# Altium footprint library call-2014-062.PcbLib: 24 footprints (part 1 of 2)
Each footprint in its own frame and in the unit in brackets; x right, y up, seen from the top. Pads: shape width x height; smd on the part's side, far side on the other; paste and mask are expansions set on the pad; w line width, h text height; cw(c..) or ccw(c..) is an arc to the next point about the centre after c.
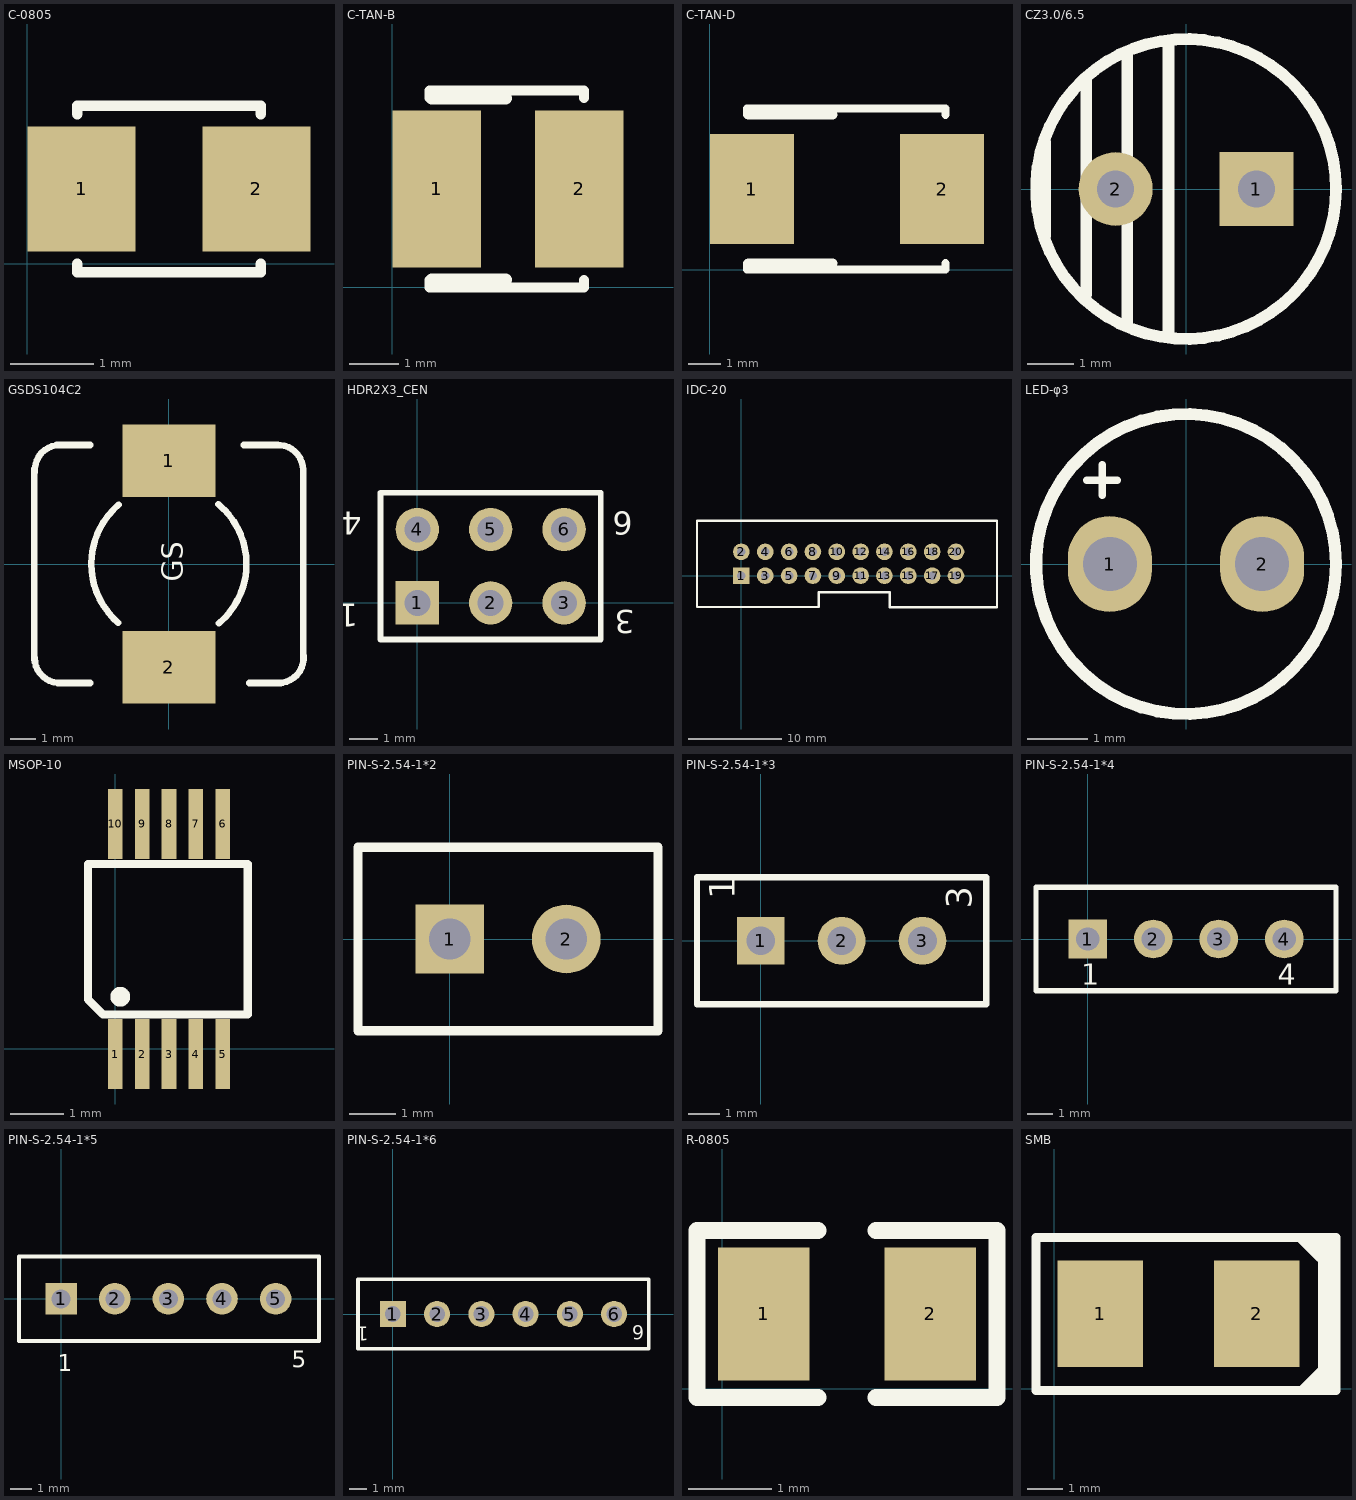
[diagram p0: the footprints below, top view; thin cyan lines are the x and y axes]

## C-0805 [mm]
height 1.5
pads (2):
  rect 1.3x1.5 smd: 1(0.65,0.9) 2(2.75,0.9)
Top Overlay:
  lines w0.127: 0.6,0 0.6,-0.1 2.8,-0.1 2.8,0 ; 0.6,1.8 0.6,1.9 2.8,1.9 2.8,1.8

## C-TAN-B [mm]
height 3
pads (2):
  rect 1.8x3.2 smd: 1(0.9,2) 2(3.8,2)
Top Overlay:
  lines w0.203: 0.75,0 0.75,0.15 ; 0.75,3.85 0.75,4 ; 0.8,0 3.9,0 3.9,0.15 ; 0.8,4 3.9,4 3.9,3.85
  lines w0.254: 0.8,0.15 2.3,0.15 ; 0.8,3.85 2.3,3.85

## C-TAN-D [mm]
height 3.7
pads (2):
  rect 2.6x3.4 smd: 1(1.3,2.5) 2(7.2,2.5)
Top Overlay:
  lines w0.254: 1.15,0 1.15,0.2 ; 1.15,4.8 1.15,5 ; 1.2,0 7.3,0 7.3,0.2 ; 1.2,5 7.3,5 7.3,4.8
  lines w0.305: 1.2,0.2 3.8,0.2 ; 1.2,4.8 3.8,4.8

## CZ3.0/6.5 [mm]
height 12.7
pads (2):
  rect 1.6x1.6 hole 0.8: 1(1.524,0)
  round 1.6 hole 0.8: 2(-1.524,0)
Top Overlay:
  circle w0.254: c0,0 r3.25
  lines w0.254: -3.048,-1.016 -3.048,1.016 ; -2.159,-2.286 -2.159,2.413 ; -1.27,-2.921 -1.27,2.921 ; -0.381,-3.175 -0.381,3.175

## GSDS104C2 [mm]
height 4
pads (2):
  rect 3.6x2.8 smd: 1(0,4) 2(0,-4)
Top Overlay:
  lines w0.254: -5.2,-3.708 -5.2,3.683 ; -5.189,-3.632 ccw(c-4.221,-3.632) -4.14,-4.597 ; -5.181,3.549 cw(c-4.216,3.629) -4.216,4.597 ; -4.343,4.6 -3.047,4.6 ; -4.293,-4.6 -3.047,-4.6 ; -1.951,-2.279 cw(c0,0) -1.933,2.294 ; 1.913,2.311 cw(c0,0) 1.932,-2.295 ; 2.896,4.6 4.216,4.6 ; 3.101,-4.6 4.318,-4.6 ; 4.14,4.597 cw(c4.221,3.632) 5.189,3.632 ; 4.242,-4.597 ccw(c4.242,-3.629) 5.207,-3.549 ; 5.2,-3.708 5.2,0 ; 5.2,-0.102 5.2,3.683
  text "GS" at 0.54,-0.68 h0.8

## HDR2X3_CEN [mm] "Connector; Header; 3x2 Position"
height 1
pads (6):
  rect 1.5x1.5 hole 0.9: 1(0,0)
  round 1.5 hole 0.9: 2(2.54,0) 3(5.08,0) 4(0,2.54) 5(2.54,2.54) 6(5.08,2.54)
Top Overlay:
  lines w0.2: -1.27,-1.27 6.35,-1.27 6.35,3.81 -1.27,3.81 -1.27,-1.27
  text "6" at 7.462,3.158 h0.8
  text "3" at 7.528,-0.253 h0.8
  text "1" at -2.051,-0.023 h0.8
  text "4" at -1.919,3.158 h0.8

## IDC-20 [mil]
height 270.08
pads (20):
  rect 70x70 hole 35: 1(1,0)
  round 70 hole 35: 2(1,100) 3(101,0) 4(101,100) 5(201,0) 6(201,100) 7(301,0) 8(301,100) 9(401,0) 10(401,100) 11(501,0) 12(501,100) 13(601,0) 14(601,100) 15(701,0) 16(701,100) 17(801,0) 18(801,100) 19(901,0) 20(901,100)
Top Overlay:
  lines w10: -185.22,-131.58 -185.22,231.02 1073.05,231.02 1073.05,-133.16 623.91,-133.16 623.91,-68.79 325.91,-68.79 325.91,-131.58 -185.22,-131.58

## LED-φ3 [mm]
height 11
pads (2):
  oval 1.4x1.6 hole 0.9: 1(-1.27,0) 2(1.27,0)
Top Overlay:
  circle w0.203: c0,0 r2.5
  lines w0.127: -1.651,1.397 -1.143,1.397 ; -1.397,1.143 -1.397,1.651

## MSOP-10 [mm]
height 1
pads (10):
  rect 0.27x1.3 smd mask+0.05: 1(0,-0.1) 2(0.5,-0.1) 3(1,-0.1) 4(1.5,-0.1) 5(2,-0.1) 6(2,4.175) 7(1.5,4.175) 8(1,4.175) 9(0.5,4.175) 10(0,4.175)
Top Overlay:
  circle w0.254: c0.096,0.965 r0.057
  lines w0.15: -0.508,0.914 -0.229,0.635 2.464,0.635 2.464,3.429 -0.508,3.429 -0.508,0.914

## PIN-S-2.54-1*2 [mm]
height 9
pads (2):
  rect 1.5x1.5 hole 0.9: 1(0,0)
  round 1.5 hole 0.9: 2(2.54,0)
Top Overlay:
  lines w0.203: -2,-2 4.54,-2 4.54,2 -2,2 -2,-2

## PIN-S-2.54-1*3 [mm]
height 9
pads (3):
  rect 1.5x1.5 hole 0.9: 1(0,0)
  round 1.5 hole 0.9: 2(2.54,0) 3(5.08,0)
Top Overlay:
  lines w0.203: -2,-2 7.08,-2 7.08,2 -2,2 -2,-2
  text "1" at -0.82,1.31 h0.8
  text "3" at 6.62,1 h0.8

## PIN-S-2.54-1*4 [mm]
height 9
pads (4):
  rect 1.5x1.5 hole 0.9: 1(0,0)
  round 1.5 hole 0.9: 2(2.54,0) 3(5.08,0) 4(7.62,0)
Top Overlay:
  lines w0.203: -2,-2 9.62,-2 9.62,2 -2,2 -2,-2
  text "1" at -0.254,-1.778 h0.8
  text "4" at 7.366,-1.778 h0.8

## PIN-S-2.54-1*5 [mm]
height 5
pads (5):
  rect 1.5x1.5 hole 0.9: 1(0,0)
  round 1.5 hole 0.9: 2(2.54,0) 3(5.08,0) 4(7.62,0) 5(10.16,0)
Top Overlay:
  lines w0.203: -2,-2 12.217,-2 12.217,2 -2,2 -2,-2
  text "1" at -0.17,-3.44 h0.8
  text "5" at 10.93,-3.26 h0.8

## PIN-S-2.54-1*6 [mm]
height 9
pads (6):
  rect 1.5x1.5 hole 0.9: 1(0,0)
  round 1.5 hole 0.9: 2(2.54,0) 3(5.08,0) 4(7.62,0) 5(10.16,0) 6(12.7,0)
Top Overlay:
  lines w0.203: -2,-2 -2,2 14.7,2 14.7,-2 -2,-2
  text "6" at 14.42,-0.66 h0.8
  text "1" at -1.38,-0.72 h0.8

## R-0805 [mm]
height 0.7
pads (2):
  rect 1.1x1.6 smd: 1(0.5,0.9) 2(2.5,0.9)
Top Overlay:
  lines w0.203: 1.15,-0.1 -0.3,-0.1 -0.3,1.9 1.15,1.9 ; 1.85,-0.1 3.3,-0.1 3.3,1.9 1.85,1.9

## SMB [mm]
height 2.8
pads (2):
  rect 2.4x3 smd: 1(1.3,2.1) 2(5.7,2.1)
Top Overlay:
  lines w0.254: 6.909,4.242 7.468,3.683 ; 6.985,-0.025 7.544,0.533 ; 7.159,-0.029 7.718,0.53 ; 7.268,4.188 7.827,3.629 ; 7.544,-0.051 7.747,-0.051 ; 7.544,-0.051 7.544,4.242 ; 7.544,-0.051 -0.508,-0.051 -0.508,4.242 7.544,4.242 ; 7.544,4.242 7.747,4.242 ; 7.747,-0.051 7.925,-0.051 7.925,4.242 7.747,4.242 ; 7.747,-0.051 7.747,4.242